# Altium footprint library HDMI_TypeA.PcbLib: 5 footprints
Each footprint in its own frame and in the unit in brackets; x right, y up, seen from the top. Pads: shape width x height; smd on the part's side, far side on the other; paste and mask are expansions set on the pad; w line width, h text height; cw(c..) or ccw(c..) is an arc to the next point about the centre after c.
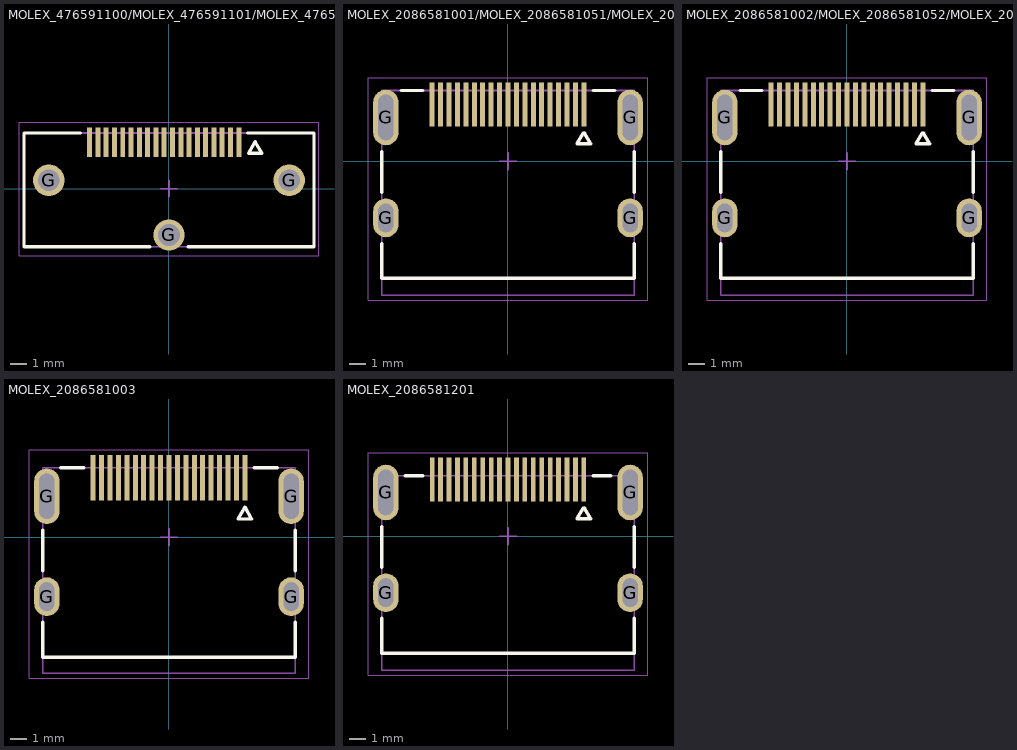
[diagram p0: the footprints below, top view; thin cyan lines are the x and y axes]

## MOLEX_476591100/MOLEX_476591101/MOLEX_476591102 [mm]
height 9.6
pads (22):
  rect 0.3x1.8 smd mask+0.07: 1(4.21,2.8) 2(3.71,2.8) 3(3.21,2.8) 4(2.71,2.8) 5(2.21,2.8) 6(1.71,2.8) 7(1.21,2.8) 8(0.71,2.8) 9(0.21,2.8) 10(-0.29,2.8) 11(-0.79,2.8) 12(-1.29,2.8) 13(-1.79,2.8) 14(-2.29,2.8) 15(-2.79,2.8) 16(-3.29,2.8) 17(-3.79,2.8) 18(-4.29,2.8) 19(-4.79,2.8)
  round 1.9 hole 1.3 mask+0.07: G(-7.25,0.5) G(0,-2.8) G(7.25,0.5)
Top Overlay:
  lines w0.2: -5.34,3.35 -8.75,3.35 -8.75,-3.5 -1.154,-3.5 ; 1.154,-3.5 8.75,-3.5 8.75,3.35 4.76,3.35 ; 4.8,2.125 5.6,2.125 5.2,2.825 4.8,2.125
Top Assembly:
  lines w0.1: -8.75,-3.5 8.75,-3.5 8.75,3.35 -8.75,3.35 -8.75,-3.5 ; 4.8,2.125 5.2,2.825 5.6,2.125 4.8,2.125
  text ".Designator" at -2.253,-0.226 h1
Top Courtyard:
  lines w0.05: -9.05,-4.05 9.05,-4.05 9.05,4 -9.05,4 -9.05,-4.05
  lines w0.1: -0.5,0 0.5,0 ; 0,-0.5 0,0.5
3D body "476591100.stp": height 9.55, standoff -1.85, extent -8.75,-3.51 8.75,3.34

## MOLEX_2086581001/MOLEX_2086581051/MOLEX_2086581061/MOLEX_2086581081/MOLEX_2086581101/MOLEX_2086588131 [mm]
height 6.19
pads (23):
  rect 0.3x2.6 smd mask+0.05: 1(4.5,3.36) 2(4,3.36) 3(3.5,3.36) 4(3,3.36) 5(2.5,3.36) 6(2,3.36) 7(1.5,3.36) 8(1,3.36) 9(0.5,3.36) 10(0,3.36) 11(-0.5,3.36) 12(-1,3.36) 13(-1.5,3.36) 14(-2,3.36) 15(-2.5,3.36) 16(-3,3.36) 17(-3.5,3.36) 18(-4,3.36) 19(-4.5,3.36)
  oval 1.5x2.3 hole 0.9 slot 1.7 at 90 deg mask+0.05: G(-7.25,-3.36) G(7.25,-3.36)
  oval 1.5x3.3 hole 0.9 slot 2.7 at 90 deg mask+0.05: G(-7.25,2.6) G(7.25,2.6)
Top Overlay:
  lines w0.2: -7.5,-4.883 -7.5,-6.95 7.5,-6.95 7.5,-4.883 ; -7.5,-1.837 -7.5,0.577 ; -6.338,4.2 -5.05,4.2 ; 4.449,1.66 4.1,1.05 4.9,1.05 4.551,1.66 ; 5.05,4.2 6.338,4.2 ; 7.5,-1.837 7.5,0.577
Top Assembly:
  lines w0.1: -7.5,-6.95 7.5,-6.95 7.5,4.2 -7.5,4.2 -7.5,-6.95 ; 4.1,1.05 4.5,1.75 4.9,1.05 4.1,1.05
  text ".Designator" at -2.253,-0.226 h1
Top Courtyard:
  lines w0.05: -8.3,-8.25 8.3,-8.25 8.3,4.96 -8.3,4.96 -8.3,-8.25
  lines w0.1: -0.5,0 0.5,0 ; 0,-0.5 0,0.5
Assembly Notes:
  lines w0.1: -7.5,-7.95 -7.5,-6.95 7.5,-6.95 7.5,-7.95 -7.5,-7.95
  text "PCB Edge" at 5.266,-6.768 h0.51
3D body "2086581001.stp": height 6.16, standoff -2.23, extent -7.499,-7.8 7.501,4.35

## MOLEX_2086581002/MOLEX_2086581052/MOLEX_2086581102/MOLEX_2086588121 [mm]
height 16.085
pads (23):
  rect 0.3x2.6 smd mask+0.05: 1(4.5,3.36) 2(4,3.36) 3(3.5,3.36) 4(3,3.36) 5(2.5,3.36) 6(2,3.36) 7(1.5,3.36) 8(1,3.36) 9(0.5,3.36) 10(0,3.36) 11(-0.5,3.36) 12(-1,3.36) 13(-1.5,3.36) 14(-2,3.36) 15(-2.5,3.36) 16(-3,3.36) 17(-3.5,3.36) 18(-4,3.36) 19(-4.5,3.36)
  oval 1.5x2.3 hole 0.9 slot 1.7 at 90 deg mask+0.05: G(-7.25,-3.36) G(7.25,-3.36)
  oval 1.5x3.3 hole 0.9 slot 2.7 at 90 deg mask+0.05: G(-7.25,2.6) G(7.25,2.6)
Top Overlay:
  lines w0.2: -7.5,-4.883 -7.5,-6.95 7.5,-6.95 7.5,-4.883 ; -7.5,-1.837 -7.5,0.577 ; -6.338,4.2 -5.05,4.2 ; 4.449,1.66 4.1,1.05 4.9,1.05 4.551,1.66 ; 5.05,4.2 6.338,4.2 ; 7.5,-1.837 7.5,0.577
Top Assembly:
  lines w0.1: -7.5,-6.95 -7.5,4.2 7.5,4.2 7.5,-6.95 -7.5,-6.95 ; 4.1,1.05 4.9,1.05 4.5,1.75 4.1,1.05
  text ".Designator" at -2.253,-0.226 h1
Top Courtyard:
  lines w0.05: -8.3,-8.25 -8.3,4.96 8.3,4.96 8.3,-8.25 -8.3,-8.25
  lines w0.1: -0.5,0 0.5,0 ; 0,-0.5 0,0.5
Assembly Notes:
  lines w0.1: -7.5,-7.95 7.5,-7.95 7.5,-6.95 -7.5,-6.95 -7.5,-7.95
  text "PCB Edge" at 5.266,-6.768 h0.51
3D body "2086581002.stp": height 16.05, standoff -2.23, extent -7.499,-7.8 7.501,4.35

## MOLEX_2086581003 [mm]
height 6.2
pads (23):
  rect 0.3x2.7 smd mask+0.05: 1(4.5,3.535) 2(4,3.535) 3(3.5,3.535) 4(3,3.535) 5(2.5,3.535) 6(2,3.535) 7(1.5,3.535) 8(1,3.535) 9(0.5,3.535) 10(0,3.535) 11(-0.5,3.535) 12(-1,3.535) 13(-1.5,3.535) 14(-2,3.535) 15(-2.5,3.535) 16(-3,3.535) 17(-3.5,3.535) 18(-4,3.535) 19(-4.5,3.535)
  oval 1.5x2.3 hole 0.9 slot 1.7 at 90 deg mask+0.05: G(-7.25,-3.535) G(7.25,-3.535)
  oval 1.5x3.3 hole 0.9 slot 2.7 at 90 deg mask+0.05: G(-7.25,2.425) G(7.25,2.425)
Top Overlay:
  lines w0.2: -7.5,-5.058 -7.5,-7.125 7.5,-7.125 7.5,-5.058 ; -7.5,-2.012 -7.5,0.402 ; -6.424,4.125 -5.05,4.125 ; 5.05,4.125 6.424,4.125 ; 7.5,-2.012 7.5,0.402 ; 4.1,1.075 4.9,1.075 4.5,1.775 4.1,1.075
Top Assembly:
  lines w0.1: -7.5,-7.125 7.5,-7.125 7.5,4.125 -7.5,4.125 -7.5,-7.125 ; 4.1,1.075 4.5,1.775 4.9,1.075 4.1,1.075
  text ".Designator" at -2.253,-0.226 h1
Top Courtyard:
  lines w0.05: -8.3,-8.375 8.3,-8.375 8.3,5.185 -8.3,5.185 -8.3,-8.375
  lines w0.1: -0.5,0 0.5,0 ; 0,-0.5 0,0.5
Assembly Notes:
  lines w0.1: -7.5,-8.075 7.5,-8.075 7.5,-7.125 -7.5,-7.125 -7.5,-8.075
  text "PCB Edge" at 5.266,-6.943 h0.51
3D body "2086581003.stp": height 6.25, standoff -2.77, extent -7.5,-8.125 7.5,4.075

## MOLEX_2086581201 [mm]
height 6.18
pads (23):
  rect 0.28x2.6 smd mask+0.05: 1(4.5,3.355) 2(4,3.355) 3(3.5,3.355) 4(3,3.355) 5(2.5,3.355) 6(2,3.355) 7(1.5,3.355) 8(1,3.355) 9(0.5,3.355) 10(0,3.355) 11(-0.5,3.355) 12(-1,3.355) 13(-1.5,3.355) 14(-2,3.355) 15(-2.5,3.355) 16(-3,3.355) 17(-3.5,3.355) 18(-4,3.355) 19(-4.5,3.355)
  oval 1.5x2.3 hole 0.9 slot 1.7 at 90 deg mask+0.05: G(-7.25,-3.355) G(7.25,-3.355)
  oval 1.5x3.3 hole 0.9 slot 2.7 at 90 deg mask+0.05: G(-7.25,2.595) G(7.25,2.595)
Top Overlay:
  lines w0.2: -7.5,-4.878 -7.5,-6.955 7.5,-6.955 7.5,-4.878 ; -7.5,-1.832 -7.5,0.573 ; -6.104,3.595 -5.04,3.595 ; 4.449,1.655 4.1,1.045 4.9,1.045 4.551,1.655 ; 5.04,3.595 6.104,3.595 ; 7.5,-1.832 7.5,0.573
Top Assembly:
  lines w0.1: -7.5,-6.955 7.5,-6.955 7.5,3.595 -7.5,3.595 -7.5,-6.955 ; 4.1,1.045 4.5,1.745 4.9,1.045 4.1,1.045
  text ".Designator" at -2.253,-0.226 h1
Top Courtyard:
  lines w0.05: -8.3,-8.255 8.3,-8.255 8.3,4.955 -8.3,4.955 -8.3,-8.255
  lines w0.1: -0.5,0 0.5,0 ; 0,-0.5 0,0.5
Assembly Notes:
  lines w0.1: -7.5,-7.955 7.5,-7.955 7.5,-6.955 -7.5,-6.955 -7.5,-7.955
  text "PCB Edge" at 5.266,-6.773 h0.51
3D body "2086581201.stp": height 6.27, standoff -1.35, extent -7.5,-7.955 7.5,3.745